# Altium footprint library XEL4020.PcbLib: 1 footprints
Each footprint in its own frame and in the unit in brackets; x right, y up, seen from the top. Pads: shape width x height; smd on the part's side, far side on the other; paste and mask are expansions set on the pad; w line width, h text height; cw(c..) or ccw(c..) is an arc to the next point about the centre after c.
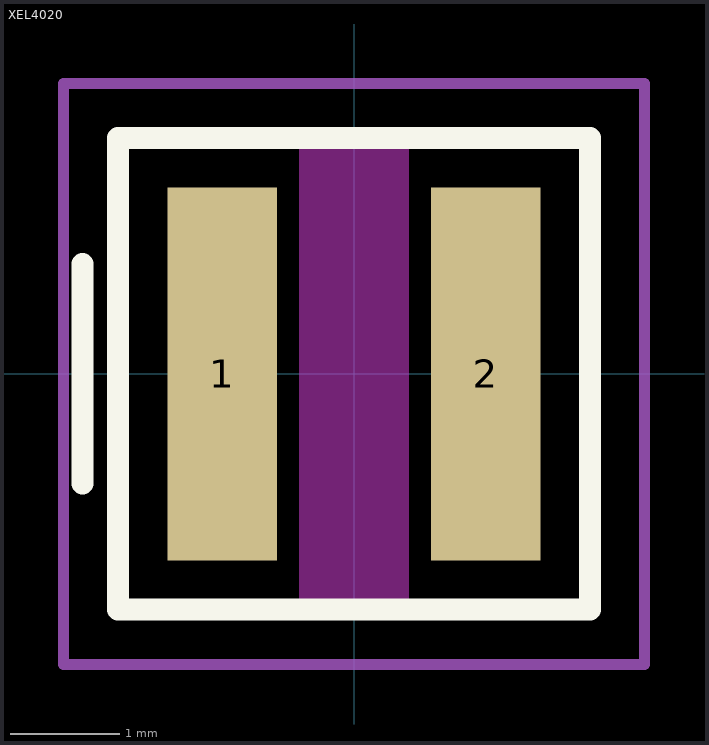
[diagram p0: the footprint, top view; thin cyan lines are the x and y axes]

## XEL4020 [mm]
pads (2):
  rect 1x3.4 smd: 1(-1.2,0) 2(1.2,0)
Top Layer keep-out:
  rectangle: -0.5,-2.15 0.5,2.15
Top Overlay:
  lines w0.2: -2.475,-1 -2.475,1 ; -2.15,-2.15 2.15,-2.15 2.15,2.15 -2.15,2.15 -2.15,-2.15
Top Courtyard:
  lines w0.1: -2.646,-2.65 -2.15,-2.65 2.646,-2.65 2.646,2.646 -2.646,2.646 -2.646,-2.65
3D body "IND_XAL4030_COC.step": height 3.1, standoff 0, extent -2.146,-2.146 2.146,2.146